# Altium footprint library PT2272.PcbLib: 1 footprints
Each footprint in its own frame and in the unit in brackets; x right, y up, seen from the top. Pads: shape width x height; smd on the part's side, far side on the other; paste and mask are expansions set on the pad; w line width, h text height; cw(c..) or ccw(c..) is an arc to the next point about the centre after c.
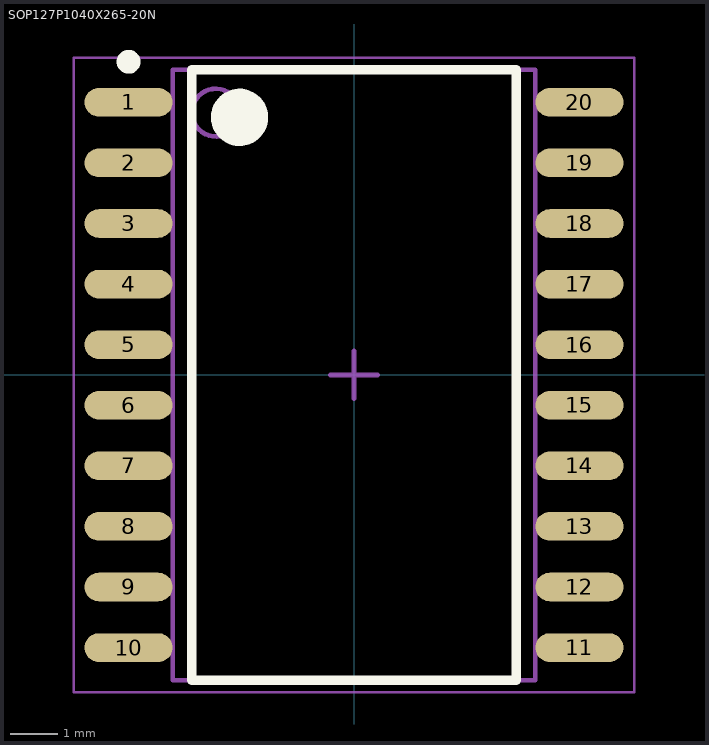
[diagram p0: the footprint, top view; thin cyan lines are the x and y axes]

## SOP127P1040X265-20N [mm] "SOP, 20-Leads, Body 12.80x7.50mm, Pitch 1.27mm, IPC Medium Density"
height 2.65
pads (20):
  oval 1.85x0.6 smd: 1(-4.725,5.715) 2(-4.725,4.445) 3(-4.725,3.175) 4(-4.725,1.905) 5(-4.725,0.635) 6(-4.725,-0.635) 7(-4.725,-1.905) 8(-4.725,-3.175) 9(-4.725,-4.445) 10(-4.725,-5.715) 11(4.725,-5.715) 12(4.725,-4.445) 13(4.725,-3.175) 14(4.725,-1.905) 15(4.725,-0.635) 16(4.725,0.635) 17(4.725,1.905) 18(4.725,3.175) 19(4.725,4.445) 20(4.725,5.715)
Top Overlay:
  circle w0.6: c-2.4,5.4 r0.3
  circle w0.25: c-4.725,6.565 r0.125
  lines w0.2: -3.4,-6.4 3.4,-6.4 3.4,6.4 -3.4,6.4 -3.4,-6.4
Mechanical 13:
  circle w0.1: c-2.9,5.5 r0.5
  lines w0.1: -3.8,-6.4 3.8,-6.4 3.8,6.4 -3.8,6.4 -3.8,-6.4
Mechanical 15:
  lines w0.05: -5.875,-6.65 5.875,-6.65 5.875,6.65 -5.875,6.65 -5.875,-6.65
  lines w0.1: -0.5,0 0.5,0 ; 0,-0.5 0,0.5
3D body "User Library-sop-20-1.STEP": height 2.51, standoff 0, extent -5.153,-6.35 5.153,6.35